# Altium schematic symbol library SCH - MCU - STM32 - ST MICROELECTRONICS STM32F412Z(E-G)JX UFBGA144.SchLib: 1 symbol
Pins are listed as number, name and electrical type; pins without a type are passive.

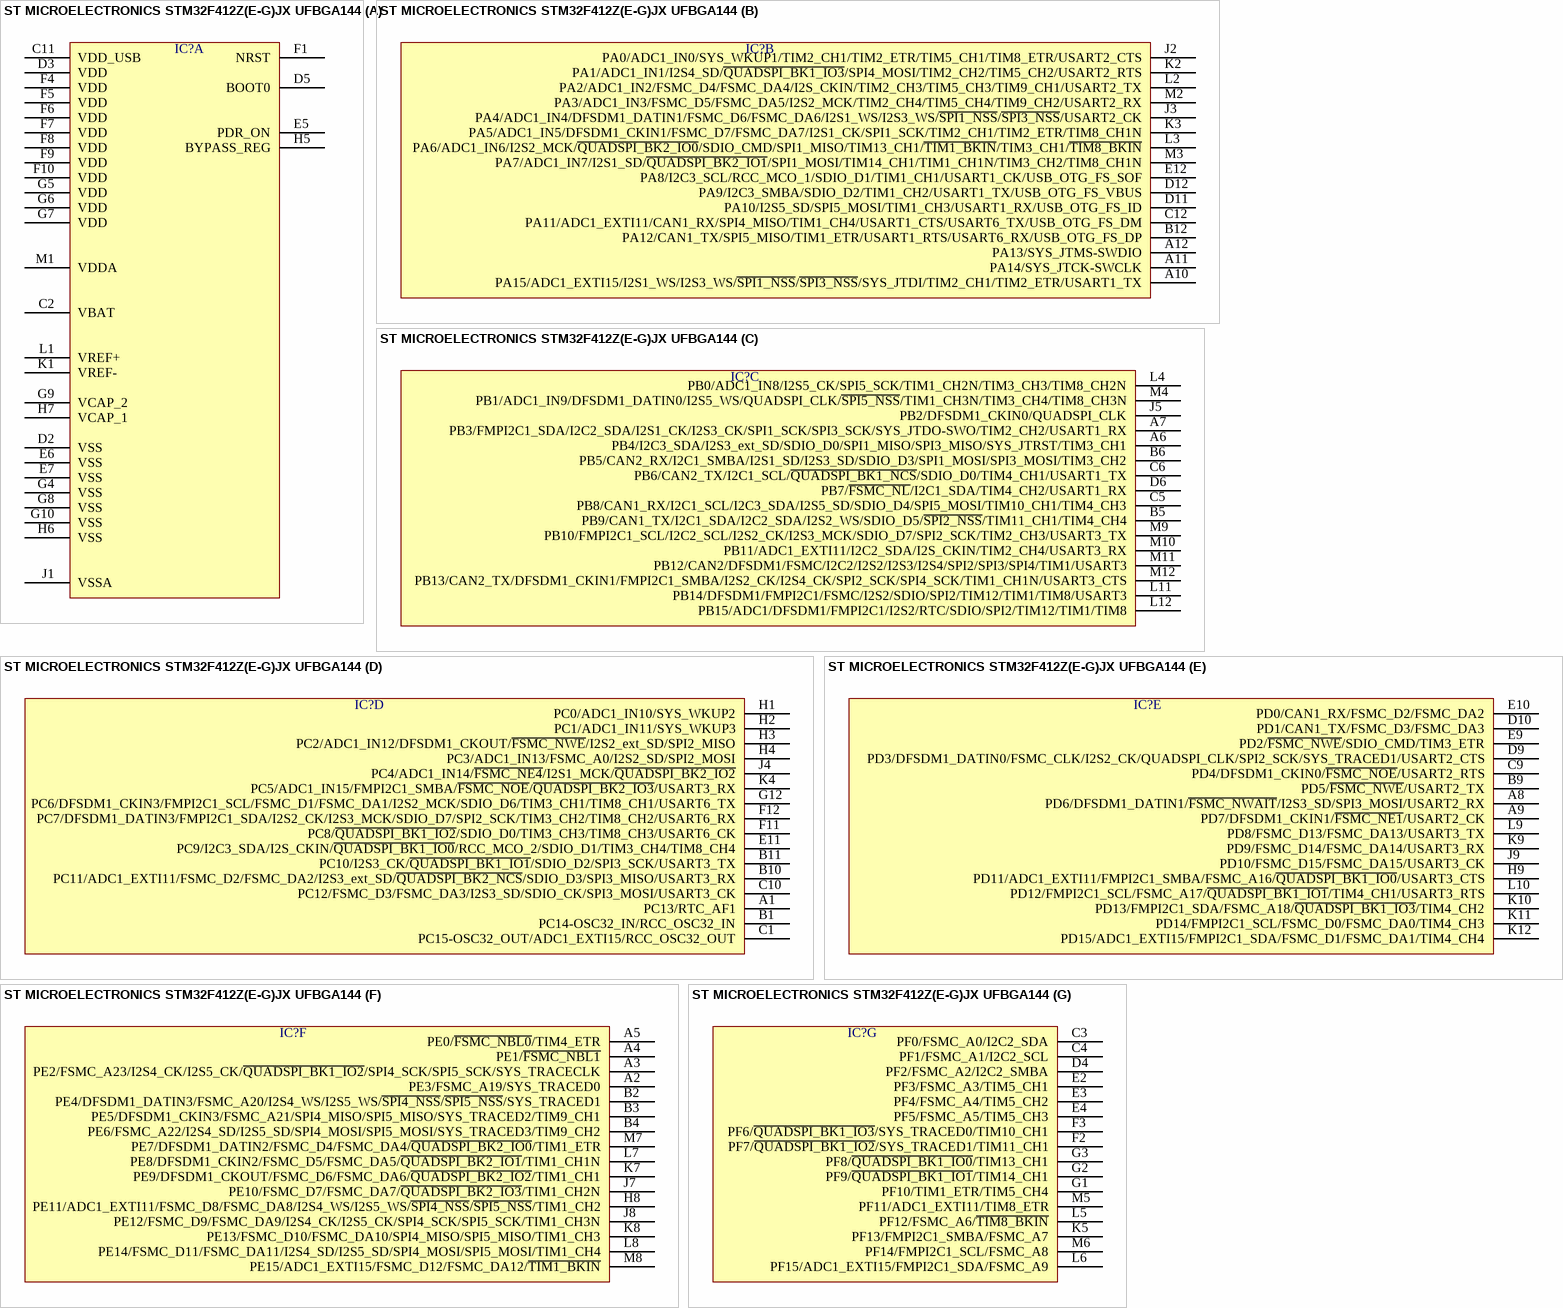
[diagram p0: symbol ST MICROELECTRONICS STM32F412Z(E-G)JX UFBGA144]

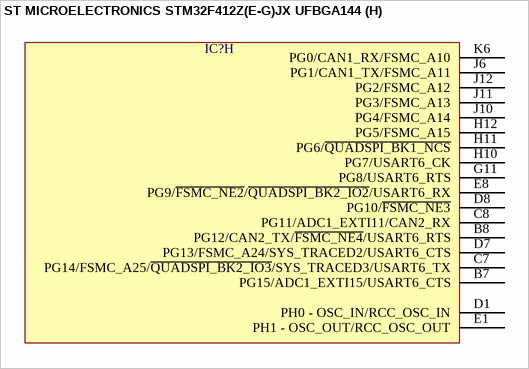
[diagram p1: symbol ST MICROELECTRONICS STM32F412Z(E-G)JX UFBGA144]

## ST MICROELECTRONICS STM32F412Z(E-G)JX UFBGA144
designator IC?  (value not drawn)
part A pins: C2 VBAT, C11 VDD_USB, D2 VSS, D3 VDD, D5 BOOT0, E5 PDR_ON, E6 VSS, E7 VSS, F1 NRST, F4 VDD, F5 VDD, F6 VDD, F7 VDD, F8 VDD, F9 VDD, F10 VDD, G4 VSS, G5 VDD, G6 VDD, G7 VDD, G8 VSS, G9 VCAP_2, G10 VSS, H5 BYPASS_REG, H6 VSS, H7 VCAP_1, J1 VSSA, K1 VREF-, L1 VREF+, M1 VDDA
part B pins: A10 PA15/ADC1_EXTI15/I2S1_WS/I2S3_WS/~{SPI1_NSS}/~{SPI3_NSS}/SYS_JTDI/TIM2_CH1/TIM2_ETR/USART1_TX, A11 PA14/SYS_JTCK-SWCLK, A12 PA13/SYS_JTMS-SWDIO, B12 PA12/CAN1_TX/SPI5_MISO/TIM1_ETR/USART1_RTS/USART6_RX/USB_OTG_FS_DP, C12 PA11/ADC1_EXTI11/CAN1_RX/SPI4_MISO/TIM1_CH4/USART1_CTS/USART6_TX/USB_OTG_FS_DM, D11 PA10/I2S5_SD/SPI5_MOSI/TIM1_CH3/USART1_RX/USB_OTG_FS_ID, D12 PA9/I2C3_SMBA/SDIO_D2/TIM1_CH2/USART1_TX/USB_OTG_FS_VBUS, E12 PA8/I2C3_SCL/RCC_MCO_1/SDIO_D1/TIM1_CH1/USART1_CK/USB_OTG_FS_SOF, J2 PA0/ADC1_IN0/SYS_WKUP1/TIM2_CH1/TIM2_ETR/TIM5_CH1/TIM8_ETR/USART2_CTS, J3 PA4/ADC1_IN4/DFSDM1_DATIN1/FSMC_D6/FSMC_DA6/I2S1_WS/I2S3_WS/~{SPI1_NSS}/~{SPI3_NSS}/USART2_CK, K2 PA1/ADC1_IN1/I2S4_SD/~{QUADSPI_BK1_IO3}/SPI4_MOSI/TIM2_CH2/TIM5_CH2/USART2_RTS, K3 PA5/ADC1_IN5/DFSDM1_CKIN1/FSMC_D7/FSMC_DA7/I2S1_CK/SPI1_SCK/TIM2_CH1/TIM2_ETR/TIM8_CH1N, L2 PA2/ADC1_IN2/FSMC_D4/FSMC_DA4/I2S_CKIN/TIM2_CH3/TIM5_CH3/TIM9_CH1/USART2_TX, L3 PA6/ADC1_IN6/I2S2_MCK/~{QUADSPI_BK2_IO0}/SDIO_CMD/SPI1_MISO/TIM13_CH1/~{TIM1_BKIN}/TIM3_CH1/~{TIM8_BKIN}, M2 PA3/ADC1_IN3/FSMC_D5/FSMC_DA5/I2S2_MCK/TIM2_CH4/TIM5_CH4/TIM9_CH2/USART2_RX, M3 PA7/ADC1_IN7/I2S1_SD/~{QUADSPI_BK2_IO1}/SPI1_MOSI/TIM14_CH1/TIM1_CH1N/TIM3_CH2/TIM8_CH1N
part C pins: A6 PB4/I2C3_SDA/I2S3_ext_SD/SDIO_D0/SPI1_MISO/SPI3_MISO/SYS_JTRST/TIM3_CH1, A7 PB3/FMPI2C1_SDA/I2C2_SDA/I2S1_CK/I2S3_CK/SPI1_SCK/SPI3_SCK/SYS_JTDO-SWO/TIM2_CH2/USART1_RX, B5 PB9/CAN1_TX/I2C1_SDA/I2C2_SDA/I2S2_WS/SDIO_D5/~{SPI2_NSS}/TIM11_CH1/TIM4_CH4, B6 PB5/CAN2_RX/I2C1_SMBA/I2S1_SD/I2S3_SD/SDIO_D3/SPI1_MOSI/SPI3_MOSI/TIM3_CH2, C5 PB8/CAN1_RX/I2C1_SCL/I2C3_SDA/I2S5_SD/SDIO_D4/SPI5_MOSI/TIM10_CH1/TIM4_CH3, C6 PB6/CAN2_TX/I2C1_SCL/~{QUADSPI_BK1_NCS}/SDIO_D0/TIM4_CH1/USART1_TX, D6 PB7/~{FSMC_NL}/I2C1_SDA/TIM4_CH2/USART1_RX, J5 PB2/DFSDM1_CKIN0/QUADSPI_CLK, L4 PB0/ADC1_IN8/I2S5_CK/SPI5_SCK/TIM1_CH2N/TIM3_CH3/TIM8_CH2N, L11 PB14/DFSDM1/FMPI2C1/FSMC/I2S2/SDIO/SPI2/TIM12/TIM1/TIM8/USART3, L12 PB15/ADC1/DFSDM1/FMPI2C1/I2S2/RTC/SDIO/SPI2/TIM12/TIM1/TIM8, M4 PB1/ADC1_IN9/DFSDM1_DATIN0/I2S5_WS/QUADSPI_CLK/~{SPI5_NSS}/TIM1_CH3N/TIM3_CH4/TIM8_CH3N, M9 PB10/FMPI2C1_SCL/I2C2_SCL/I2S2_CK/I2S3_MCK/SDIO_D7/SPI2_SCK/TIM2_CH3/USART3_TX, M10 PB11/ADC1_EXTI11/I2C2_SDA/I2S_CKIN/TIM2_CH4/USART3_RX, M11 PB12/CAN2/DFSDM1/FSMC/I2C2/I2S2/I2S3/I2S4/SPI2/SPI3/SPI4/TIM1/USART3, M12 PB13/CAN2_TX/DFSDM1_CKIN1/FMPI2C1_SMBA/I2S2_CK/I2S4_CK/SPI2_SCK/SPI4_SCK/TIM1_CH1N/USART3_CTS
part D pins: A1 PC13/RTC_AF1, B1 PC14-OSC32_IN/RCC_OSC32_IN, B10 PC11/ADC1_EXTI11/FSMC_D2/FSMC_DA2/I2S3_ext_SD/~{QUADSPI_BK2_NCS}/SDIO_D3/SPI3_MISO/USART3_RX, B11 PC10/I2S3_CK/~{QUADSPI_BK1_IO1}/SDIO_D2/SPI3_SCK/USART3_TX, C1 PC15-OSC32_OUT/ADC1_EXTI15/RCC_OSC32_OUT, C10 PC12/FSMC_D3/FSMC_DA3/I2S3_SD/SDIO_CK/SPI3_MOSI/USART3_CK, E11 PC9/I2C3_SDA/I2S_CKIN/~{QUADSPI_BK1_IO0}/RCC_MCO_2/SDIO_D1/TIM3_CH4/TIM8_CH4, F11 PC8/~{QUADSPI_BK1_IO2}/SDIO_D0/TIM3_CH3/TIM8_CH3/USART6_CK, F12 PC7/DFSDM1_DATIN3/FMPI2C1_SDA/I2S2_CK/I2S3_MCK/SDIO_D7/SPI2_SCK/TIM3_CH2/TIM8_CH2/USART6_RX, G12 PC6/DFSDM1_CKIN3/FMPI2C1_SCL/FSMC_D1/FSMC_DA1/I2S2_MCK/SDIO_D6/TIM3_CH1/TIM8_CH1/USART6_TX, H1 PC0/ADC1_IN10/SYS_WKUP2, H2 PC1/ADC1_IN11/SYS_WKUP3, H3 PC2/ADC1_IN12/DFSDM1_CKOUT/~{FSMC_NWE}/I2S2_ext_SD/SPI2_MISO, H4 PC3/ADC1_IN13/FSMC_A0/I2S2_SD/SPI2_MOSI, J4 PC4/ADC1_IN14/~{FSMC_NE4}/I2S1_MCK/~{QUADSPI_BK2_IO2}, K4 PC5/ADC1_IN15/FMPI2C1_SMBA/~{FSMC_NOE}/~{QUADSPI_BK2_IO3}/USART3_RX
part E pins: A8 PD6/DFSDM1_DATIN1/~{FSMC_NWAIT}/I2S3_SD/SPI3_MOSI/USART2_RX, A9 PD7/DFSDM1_CKIN1/~{FSMC_NE1}/USART2_CK, B9 PD5/~{FSMC_NWE}/USART2_TX, C9 PD4/DFSDM1_CKIN0/~{FSMC_NOE}/USART2_RTS, D9 PD3/DFSDM1_DATIN0/FSMC_CLK/I2S2_CK/QUADSPI_CLK/SPI2_SCK/SYS_TRACED1/USART2_CTS, D10 PD1/CAN1_TX/FSMC_D3/FSMC_DA3, E9 PD2/~{FSMC_NWE}/SDIO_CMD/TIM3_ETR, E10 PD0/CAN1_RX/FSMC_D2/FSMC_DA2, H9 PD11/ADC1_EXTI11/FMPI2C1_SMBA/FSMC_A16/~{QUADSPI_BK1_IO0}/USART3_CTS, J9 PD10/FSMC_D15/FSMC_DA15/USART3_CK, K9 PD9/FSMC_D14/FSMC_DA14/USART3_RX, K10 PD13/FMPI2C1_SDA/FSMC_A18/~{QUADSPI_BK1_IO3}/TIM4_CH2, K11 PD14/FMPI2C1_SCL/FSMC_D0/FSMC_DA0/TIM4_CH3, K12 PD15/ADC1_EXTI15/FMPI2C1_SDA/FSMC_D1/FSMC_DA1/TIM4_CH4, L9 PD8/FSMC_D13/FSMC_DA13/USART3_TX, L10 PD12/FMPI2C1_SCL/FSMC_A17/~{QUADSPI_BK1_IO1}/TIM4_CH1/USART3_RTS
part F pins: A2 PE3/FSMC_A19/SYS_TRACED0, A3 PE2/FSMC_A23/I2S4_CK/I2S5_CK/~{QUADSPI_BK1_IO2}/SPI4_SCK/SPI5_SCK/SYS_TRACECLK, A4 PE1/~{FSMC_NBL1}, A5 PE0/~{FSMC_NBL0}/TIM4_ETR, B2 PE4/DFSDM1_DATIN3/FSMC_A20/I2S4_WS/I2S5_WS/~{SPI4_NSS}/~{SPI5_NSS}/SYS_TRACED1, B3 PE5/DFSDM1_CKIN3/FSMC_A21/SPI4_MISO/SPI5_MISO/SYS_TRACED2/TIM9_CH1, B4 PE6/FSMC_A22/I2S4_SD/I2S5_SD/SPI4_MOSI/SPI5_MOSI/SYS_TRACED3/TIM9_CH2, H8 PE11/ADC1_EXTI11/FSMC_D8/FSMC_DA8/I2S4_WS/I2S5_WS/~{SPI4_NSS}/~{SPI5_NSS}/TIM1_CH2, J7 PE10/FSMC_D7/FSMC_DA7/~{QUADSPI_BK2_IO3}/TIM1_CH2N, J8 PE12/FSMC_D9/FSMC_DA9/I2S4_CK/I2S5_CK/SPI4_SCK/SPI5_SCK/TIM1_CH3N, K7 PE9/DFSDM1_CKOUT/FSMC_D6/FSMC_DA6/~{QUADSPI_BK2_IO2}/TIM1_CH1, K8 PE13/FSMC_D10/FSMC_DA10/SPI4_MISO/SPI5_MISO/TIM1_CH3, L7 PE8/DFSDM1_CKIN2/FSMC_D5/FSMC_DA5/~{QUADSPI_BK2_IO1}/TIM1_CH1N, L8 PE14/FSMC_D11/FSMC_DA11/I2S4_SD/I2S5_SD/SPI4_MOSI/SPI5_MOSI/TIM1_CH4, M7 PE7/DFSDM1_DATIN2/FSMC_D4/FSMC_DA4/~{QUADSPI_BK2_IO0}/TIM1_ETR, M8 PE15/ADC1_EXTI15/FSMC_D12/FSMC_DA12/~{TIM1_BKIN}
part G pins: C3 PF0/FSMC_A0/I2C2_SDA, C4 PF1/FSMC_A1/I2C2_SCL, D4 PF2/FSMC_A2/I2C2_SMBA, E2 PF3/FSMC_A3/TIM5_CH1, E3 PF4/FSMC_A4/TIM5_CH2, E4 PF5/FSMC_A5/TIM5_CH3, F2 PF7/~{QUADSPI_BK1_IO2}/SYS_TRACED1/TIM11_CH1, F3 PF6/~{QUADSPI_BK1_IO3}/SYS_TRACED0/TIM10_CH1, G1 PF10/TIM1_ETR/TIM5_CH4, G2 PF9/~{QUADSPI_BK1_IO1}/TIM14_CH1, G3 PF8/~{QUADSPI_BK1_IO0}/TIM13_CH1, K5 PF13/FMPI2C1_SMBA/FSMC_A7, L5 PF12/FSMC_A6/~{TIM8_BKIN}, L6 PF15/ADC1_EXTI15/FMPI2C1_SDA/FSMC_A9, M5 PF11/ADC1_EXTI11/TIM8_ETR, M6 PF14/FMPI2C1_SCL/FSMC_A8
part H pins: B7 PG15/ADC1_EXTI15/USART6_CTS, B8 PG12/CAN2_TX/~{FSMC_NE4}/USART6_RTS, C7 PG14/FSMC_A25/~{QUADSPI_BK2_IO3}/SYS_TRACED3/USART6_TX, C8 PG11/ADC1_EXTI11/CAN2_RX, D1 PH0 - OSC_IN/RCC_OSC_IN, D7 PG13/FSMC_A24/SYS_TRACED2/USART6_CTS, D8 PG10/~{FSMC_NE3}, E1 PH1 - OSC_OUT/RCC_OSC_OUT, E8 PG9/~{FSMC_NE2}/~{QUADSPI_BK2_IO2}/USART6_RX, G11 PG8/USART6_RTS, H10 PG7/USART6_CK, H11 PG6/~{QUADSPI_BK1_NCS}, H12 PG5/FSMC_A15, J6 PG1/CAN1_TX/FSMC_A11, J10 PG4/FSMC_A14, J11 PG3/FSMC_A13, J12 PG2/FSMC_A12, K6 PG0/CAN1_RX/FSMC_A10